# EAGLE library part ID-12 (library balto)
ID-12 RFID Reader with integrated antenna
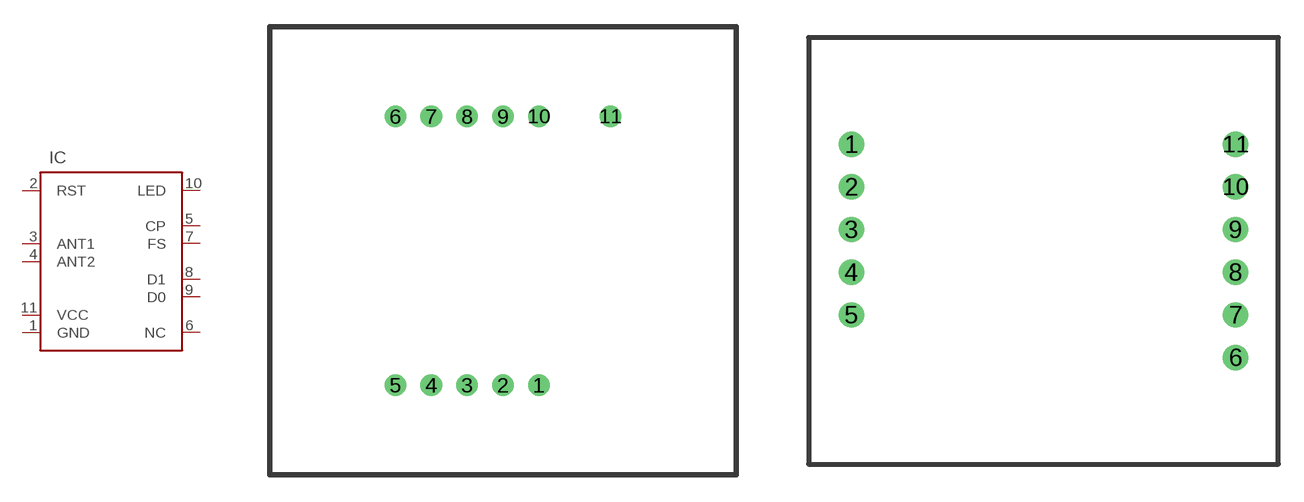
[diagram p14: symbol with the pads of ID-12; footprints ID-12, ID-12-SP]

Designator prefix IC

## ID-12-2MM  [ID-12]
1  GND  pwr
2  RST  in
3  ANT1
4  ANT2
5  CP  in
6  NC  nc
7  FS  in
8  D1  out
9  D0  out
10  LED  out
11  VCC  pwr

## ID-12-1,27MM  [ID-12-SP]
Pads as for ID-12

## Footprint ID-12 (pad centres in mm)
ID-12 2mm pinout
drill 0.7: 1 8,-15; 2 6,-15; 3 4,-15; 4 2,-15; 5 0,-15; 6 0,0; 7 2,0; 8 4,0; 9 6,0; 10 8,0; 11 12,0

## Footprint ID-12-SP (pad centres in mm)
ID-12 with sparkfun adapter
drill 1: 1 0,0; 2 0,-2.54; 3 0,-5.08; 4 0,-7.62; 5 0,-10.16; 6 22.86,-12.7; 7 22.86,-10.16; 8 22.86,-7.62; 9 22.86,-5.08; 10 22.86,-2.54; 11 22.86,0